# Altium schematic symbol library Molex Ultrafit 3x2 - 172299-1206.SchLib: 1 symbol
Pins are listed as number, name and electrical type; pins without a type are passive.

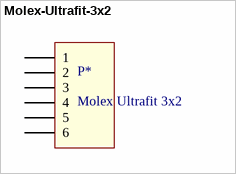
[diagram p0: symbol Molex-Ultrafit-3x2]

## Molex-Ultrafit-3x2
designator P*, comment Molex Ultrafit 3x2
Molex Ultrafit 3x2 - 172299-1206
footprint Molex-Ultrafit-3x2 (Molex Ultrafit 3x2 - 172299-1206)
pins: 1, 2, 3, 4, 5, 6